# Altium schematic symbol library LPC4330.SchLib: 1 symbol
Pins are listed as number, name and electrical type; pins without a type are passive.

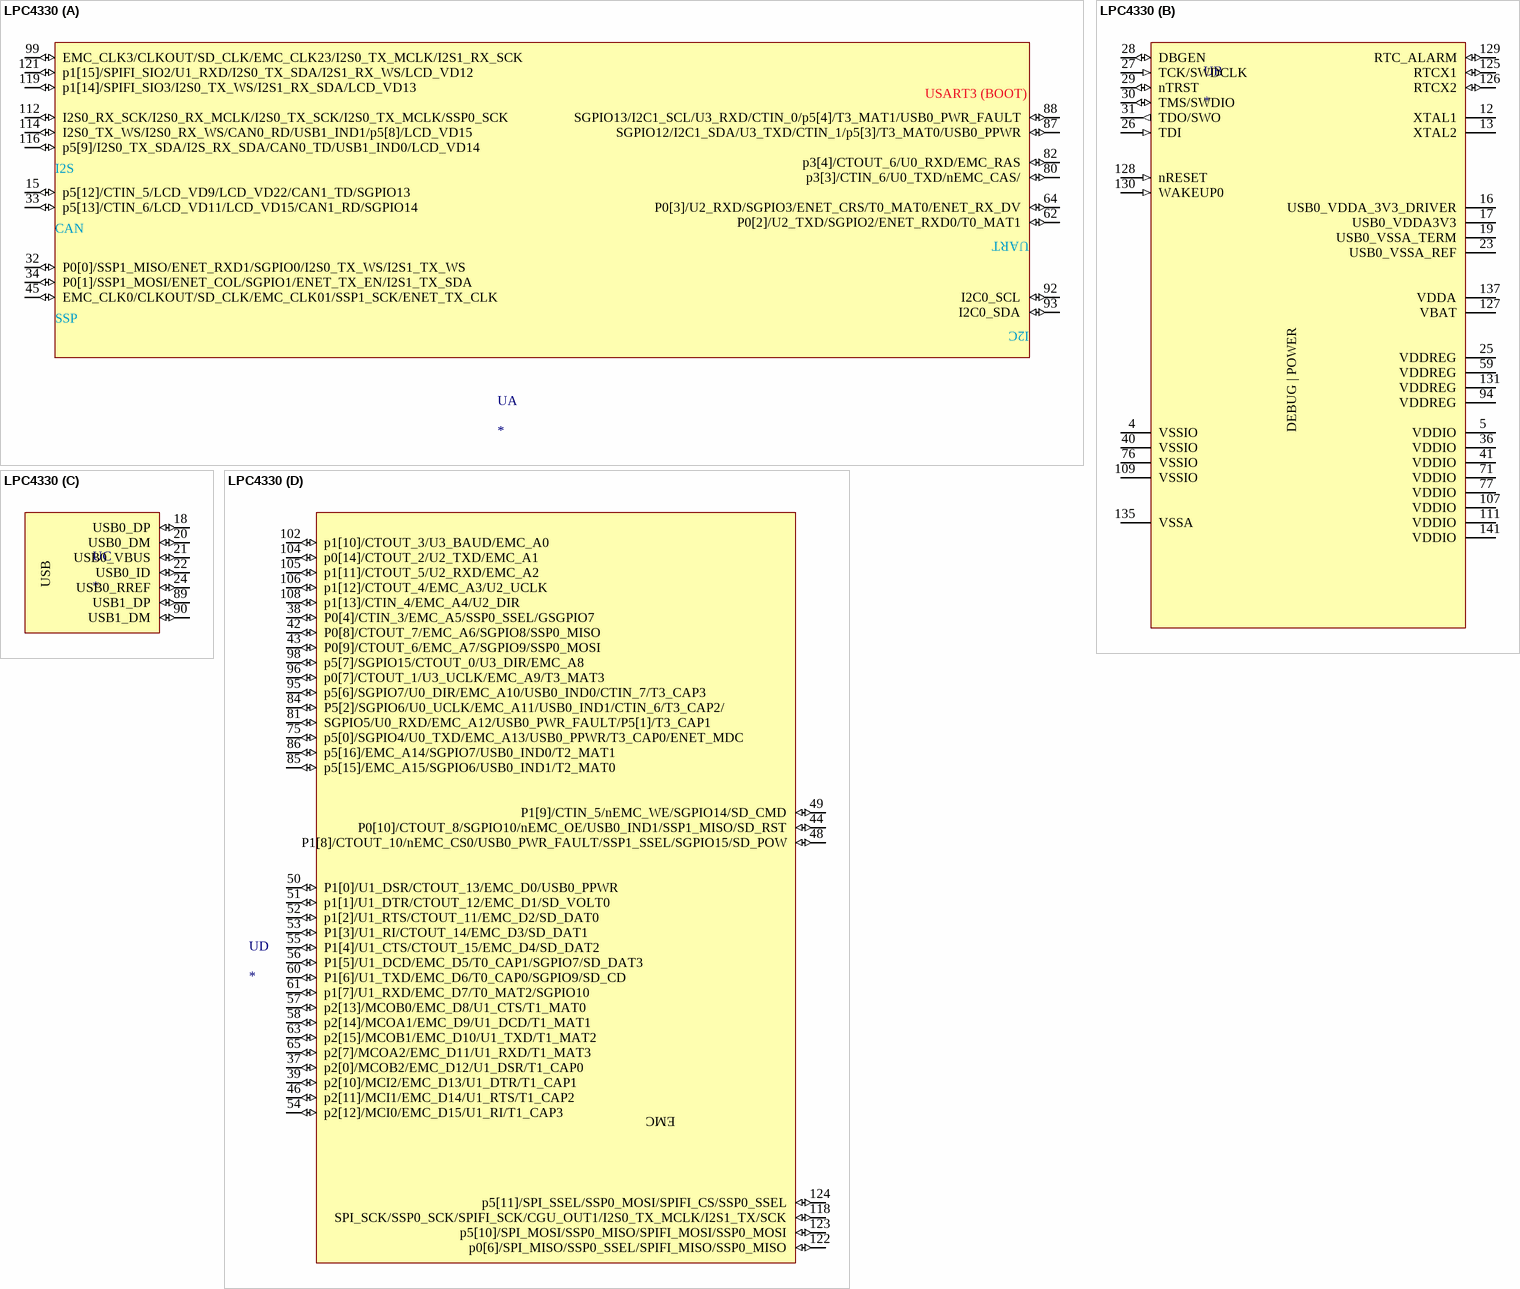
[diagram p0: symbol LPC4330]

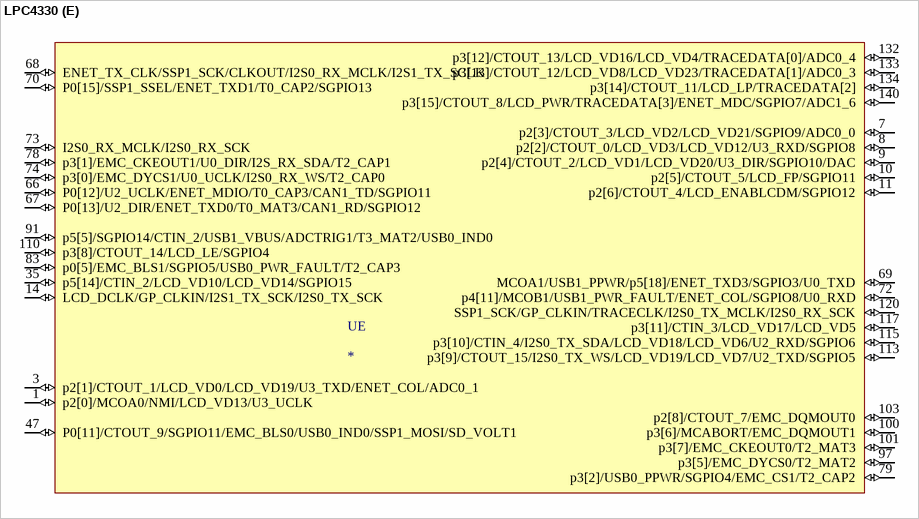
[diagram p1: symbol LPC4330]

## LPC4330
designator U
MCU, 32BIT, ARM CORTEX M4&M0, 144LQFP; farnell: 2094316
footprint TSQFP50P2200X2200X160-144N (TSQFP, 144-Leads, Body 22.1x22.1mm (max), Pitch 0.50mm, IPC Medium Density)
part A pins: 15 p5[12]/CTIN_5/LCD_VD9/LCD_VD22/CAN1_TD/SGPIO13 (io), 32 P0[0]/SSP1_MISO/ENET_RXD1/SGPIO0/I2S0_TX_WS/I2S1_TX_WS (io), 33 p5[13]/CTIN_6/LCD_VD11/LCD_VD15/CAN1_RD/SGPIO14 (io), 34 P0[1]/SSP1_MOSI/ENET_COL/SGPIO1/ENET_TX_EN/I2S1_TX_SDA (io), 45 EMC_CLK0/CLKOUT/SD_CLK/EMC_CLK01/SSP1_SCK/ENET_TX_CLK (io), 62 P0[2]/U2_TXD/SGPIO2/ENET_RXD0/T0_MAT1 (io), 64 P0[3]/U2_RXD/SGPIO3/ENET_CRS/T0_MAT0/ENET_RX_DV (io), 80 p3[3]/CTIN_6/U0_TXD/nEMC_CAS/ (io), 82 p3[4]/CTOUT_6/U0_RXD/EMC_RAS (io), 87 SGPIO12/I2C1_SDA/U3_TXD/CTIN_1/p5[3]/T3_MAT0/USB0_PPWR (io), 88 SGPIO13/I2C1_SCL/U3_RXD/CTIN_0/p5[4]/T3_MAT1/USB0_PWR_FAULT (io), 92 I2C0_SCL (io), 93 I2C0_SDA (io), 99 EMC_CLK3/CLKOUT/SD_CLK/EMC_CLK23/I2S0_TX_MCLK/I2S1_RX_SCK (io), 112 I2S0_RX_SCK/I2S0_RX_MCLK/I2S0_TX_SCK/I2S0_TX_MCLK/SSP0_SCK (io), 114 I2S0_TX_WS/I2S0_RX_WS/CAN0_RD/USB1_IND1/p5[8]/LCD_VD15 (io), 116 p5[9]/I2S0_TX_SDA/I2S_RX_SDA/CAN0_TD/USB1_IND0/LCD_VD14 (io), 119 p1[14]/SPIFI_SIO3/I2S0_TX_WS/I2S1_RX_SDA/LCD_VD13 (io), 121 p1[15]/SPIFI_SIO2/U1_RXD/I2S0_TX_SDA/I2S1_RX_WS/LCD_VD12 (io)
part B pins: 4 VSSIO (power), 5 VDDIO (power), 12 XTAL1, 13 XTAL2, 16 USB0_VDDA_3V3_DRIVER (power), 17 USB0_VDDA3V3 (power), 19 USB0_VSSA_TERM (power), 23 USB0_VSSA_REF (power), 25 VDDREG (power), 26 TDI (in), 27 TCK/SWDCLK (in), 28 DBGEN (io), 29 nTRST (io), 30 TMS/SWDIO (io), 31 TDO/SWO (out), 36 VDDIO (power), 40 VSSIO (power), 41 VDDIO (power), 59 VDDREG (power), 71 VDDIO (power), 76 VSSIO (power), 77 VDDIO (power), 94 VDDREG (power), 107 VDDIO (power), 109 VSSIO (power), 111 VDDIO (power), 125 RTCX1 (io), 126 RTCX2 (io), 127 VBAT (power), 128 nRESET (in), 129 RTC_ALARM (io), 130 WAKEUP0 (in), 131 VDDREG (power), 135 VSSA (power), 137 VDDA (power), 141 VDDIO (power)
part C pins: 18 USB0_DP (io), 20 USB0_DM (io), 21 USB0_VBUS (io), 22 USB0_ID (io), 24 USB0_RREF (io), 89 USB1_DP (io), 90 USB1_DM (io)
part D pins: 37 p2[0]/MCOB2/EMC_D12/U1_DSR/T1_CAP0 (io), 38 P0[4]/CTIN_3/EMC_A5/SSP0_SSEL/GSGPIO7 (io), 39 p2[10]/MCI2/EMC_D13/U1_DTR/T1_CAP1 (io), 42 P0[8]/CTOUT_7/EMC_A6/SGPIO8/SSP0_MISO (io), 43 P0[9]/CTOUT_6/EMC_A7/SGPIO9/SSP0_MOSI (io), 44 P0[10]/CTOUT_8/SGPIO10/nEMC_OE/USB0_IND1/SSP1_MISO/SD_RST (io), 46 p2[11]/MCI1/EMC_D14/U1_RTS/T1_CAP2 (io), 48 P1[8]/CTOUT_10/nEMC_CS0/USB0_PWR_FAULT/SSP1_SSEL/SGPIO15/SD_POW (io), 49 P1[9]/CTIN_5/nEMC_WE/SGPIO14/SD_CMD (io), 50 P1[0]/U1_DSR/CTOUT_13/EMC_D0/USB0_PPWR (io), 51 p1[1]/U1_DTR/CTOUT_12/EMC_D1/SD_VOLT0 (io), 52 p1[2]/U1_RTS/CTOUT_11/EMC_D2/SD_DAT0 (io), 53 P1[3]/U1_RI/CTOUT_14/EMC_D3/SD_DAT1 (io), 54 p2[12]/MCI0/EMC_D15/U1_RI/T1_CAP3 (io), 55 P1[4]/U1_CTS/CTOUT_15/EMC_D4/SD_DAT2 (io), 56 P1[5]/U1_DCD/EMC_D5/T0_CAP1/SGPIO7/SD_DAT3 (io), 57 p2[13]/MCOB0/EMC_D8/U1_CTS/T1_MAT0 (io), 58 p2[14]/MCOA1/EMC_D9/U1_DCD/T1_MAT1 (io), 60 P1[6]/U1_TXD/EMC_D6/T0_CAP0/SGPIO9/SD_CD (io), 61 p1[7]/U1_RXD/EMC_D7/T0_MAT2/SGPIO10 (io), 63 p2[15]/MCOB1/EMC_D10/U1_TXD/T1_MAT2 (io), 65 p2[7]/MCOA2/EMC_D11/U1_RXD/T1_MAT3 (io), 75 p5[0]/SGPIO4/U0_TXD/EMC_A13/USB0_PPWR/T3_CAP0/ENET_MDC (io), 81 SGPIO5/U0_RXD/EMC_A12/USB0_PWR_FAULT/P5[1]/T3_CAP1 (io), 84 P5[2]/SGPIO6/U0_UCLK/EMC_A11/USB0_IND1/CTIN_6/T3_CAP2/ (io), 85 p5[15]/EMC_A15/SGPIO6/USB0_IND1/T2_MAT0 (io), 86 p5[16]/EMC_A14/SGPIO7/USB0_IND0/T2_MAT1 (io), 95 p5[6]/SGPIO7/U0_DIR/EMC_A10/USB0_IND0/CTIN_7/T3_CAP3 (io), 96 p0[7]/CTOUT_1/U3_UCLK/EMC_A9/T3_MAT3 (io), 98 p5[7]/SGPIO15/CTOUT_0/U3_DIR/EMC_A8 (io), 102 p1[10]/CTOUT_3/U3_BAUD/EMC_A0 (io), 104 p0[14]/CTOUT_2/U2_TXD/EMC_A1 (io), 105 p1[11]/CTOUT_5/U2_RXD/EMC_A2 (io), 106 p1[12]/CTOUT_4/EMC_A3/U2_UCLK (io), 108 p1[13]/CTIN_4/EMC_A4/U2_DIR (io), 118 SPI_SCK/SSP0_SCK/SPIFI_SCK/CGU_OUT1/I2S0_TX_MCLK/I2S1_TX/SCK (io), 122 p0[6]/SPI_MISO/SSP0_SSEL/SPIFI_MISO/SSP0_MISO (io), 123 p5[10]/SPI_MOSI/SSP0_MISO/SPIFI_MOSI/SSP0_MOSI (io), 124 p5[11]/SPI_SSEL/SSP0_MOSI/SPIFI_CS/SSP0_SSEL (io)
part E pins: 1 p2[0]/MCOA0/NMI/LCD_VD13/U3_UCLK (io), 3 p2[1]/CTOUT_1/LCD_VD0/LCD_VD19/U3_TXD/ENET_COL/ADC0_1 (io), 7 p2[3]/CTOUT_3/LCD_VD2/LCD_VD21/SGPIO9/ADC0_0 (io), 8 p2[2]/CTOUT_0/LCD_VD3/LCD_VD12/U3_RXD/SGPIO8 (io), 9 p2[4]/CTOUT_2/LCD_VD1/LCD_VD20/U3_DIR/SGPIO10/DAC (io), 10 p2[5]/CTOUT_5/LCD_FP/SGPIO11 (io), 11 p2[6]/CTOUT_4/LCD_ENABLCDM/SGPIO12 (io), 14 LCD_DCLK/GP_CLKIN/I2S1_TX_SCK/I2S0_TX_SCK (io), 35 p5[14]/CTIN_2/LCD_VD10/LCD_VD14/SGPIO15 (io), 47 P0[11]/CTOUT_9/SGPIO11/EMC_BLS0/USB0_IND0/SSP1_MOSI/SD_VOLT1 (io), 66 P0[12]/U2_UCLK/ENET_MDIO/T0_CAP3/CAN1_TD/SGPIO11 (io), 67 P0[13]/U2_DIR/ENET_TXD0/T0_MAT3/CAN1_RD/SGPIO12 (io), 68 ENET_TX_CLK/SSP1_SCK/CLKOUT/I2S0_RX_MCLK/I2S1_TX_SCLK (io), 69 MCOA1/USB1_PPWR/p5[18]/ENET_TXD3/SGPIO3/U0_TXD (io), 70 P0[15]/SSP1_SSEL/ENET_TXD1/T0_CAP2/SGPIO13 (io), 72 p4[11]/MCOB1/USB1_PWR_FAULT/ENET_COL/SGPIO8/U0_RXD (io), 73 I2S0_RX_MCLK/I2S0_RX_SCK (io), 74 p3[0]/EMC_DYCS1/U0_UCLK/I2S0_RX_WS/T2_CAP0 (io), 78 p3[1]/EMC_CKEOUT1/U0_DIR/I2S_RX_SDA/T2_CAP1 (io), 79 p3[2]/USB0_PPWR/SGPIO4/EMC_CS1/T2_CAP2 (io), 83 p0[5]/EMC_BLS1/SGPIO5/USB0_PWR_FAULT/T2_CAP3 (io), 91 p5[5]/SGPIO14/CTIN_2/USB1_VBUS/ADCTRIG1/T3_MAT2/USB0_IND0 (io), 97 p3[5]/EMC_DYCS0/T2_MAT2 (io), 100 p3[6]/MCABORT/EMC_DQMOUT1 (io), 101 p3[7]/EMC_CKEOUT0/T2_MAT3 (io), 103 p2[8]/CTOUT_7/EMC_DQMOUT0 (io), 110 p3[8]/CTOUT_14/LCD_LE/SGPIO4 (io), 113 p3[9]/CTOUT_15/I2S0_TX_WS/LCD_VD19/LCD_VD7/U2_TXD/SGPIO5 (io), 115 p3[10]/CTIN_4/I2S0_TX_SDA/LCD_VD18/LCD_VD6/U2_RXD/SGPIO6 (io), 117 p3[11]/CTIN_3/LCD_VD17/LCD_VD5 (io), 120 SSP1_SCK/GP_CLKIN/TRACECLK/I2S0_TX_MCLK/I2S0_RX_SCK (io), 132 p3[12]/CTOUT_13/LCD_VD16/LCD_VD4/TRACEDATA[0]/ADC0_4 (io), 133 p3[13]/CTOUT_12/LCD_VD8/LCD_VD23/TRACEDATA[1]/ADC0_3 (io), 134 p3[14]/CTOUT_11/LCD_LP/TRACEDATA[2] (io), 140 p3[15]/CTOUT_8/LCD_PWR/TRACEDATA[3]/ENET_MDC/SGPIO7/ADC1_6 (io)
part A text: USART3 (BOOT); I2S; CAN; UART; SSP; I2C
part B text: DEBUG | POWER
part C text: USB
part D text: EMC